# EAGLE library part TPS73733 (library GTA04b7)
3.3V, 1A LDO
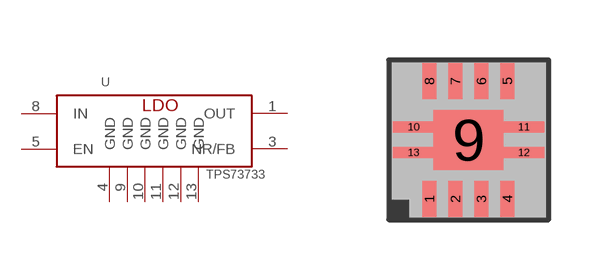
[diagram p49: symbol with the pads of SON-3X3; footprint SON-3X3]

Designator prefix -

## TPS73733DRB (MICRO-VIA: 2:9)  [SON-3X3]
1  OUT  pwr
3  NR/FB
4  GND  pwr
5  EN  in
8  IN  pwr
9  GND  pwr
10  GND  pwr
11  GND  pwr
12  GND  pwr
13  GND  pwr

## Footprint SON-3X3 (pad centres in mm)
S-PVSON-N8
smd 0.35 x 0.9: 1 -0.975,-1.475; 2 -0.325,-1.475; 3 0.325,-1.475; 4 0.975,-1.475; 5 0.975,1.475; 6 0.325,1.475; 7 -0.325,1.475; 8 -0.975,1.475
smd 1.75 x 1.5: 9 0,0
smd 1.02 x 0.28: 10 -1.38,0.32; 11 1.38,0.32; 12 1.38,-0.32; 13 -1.38,-0.32